# Altium schematic symbol library 5A_BRULA,Tomas.SchLib: 48 symbols
Pins are listed as number, name and electrical type; pins without a type are passive.

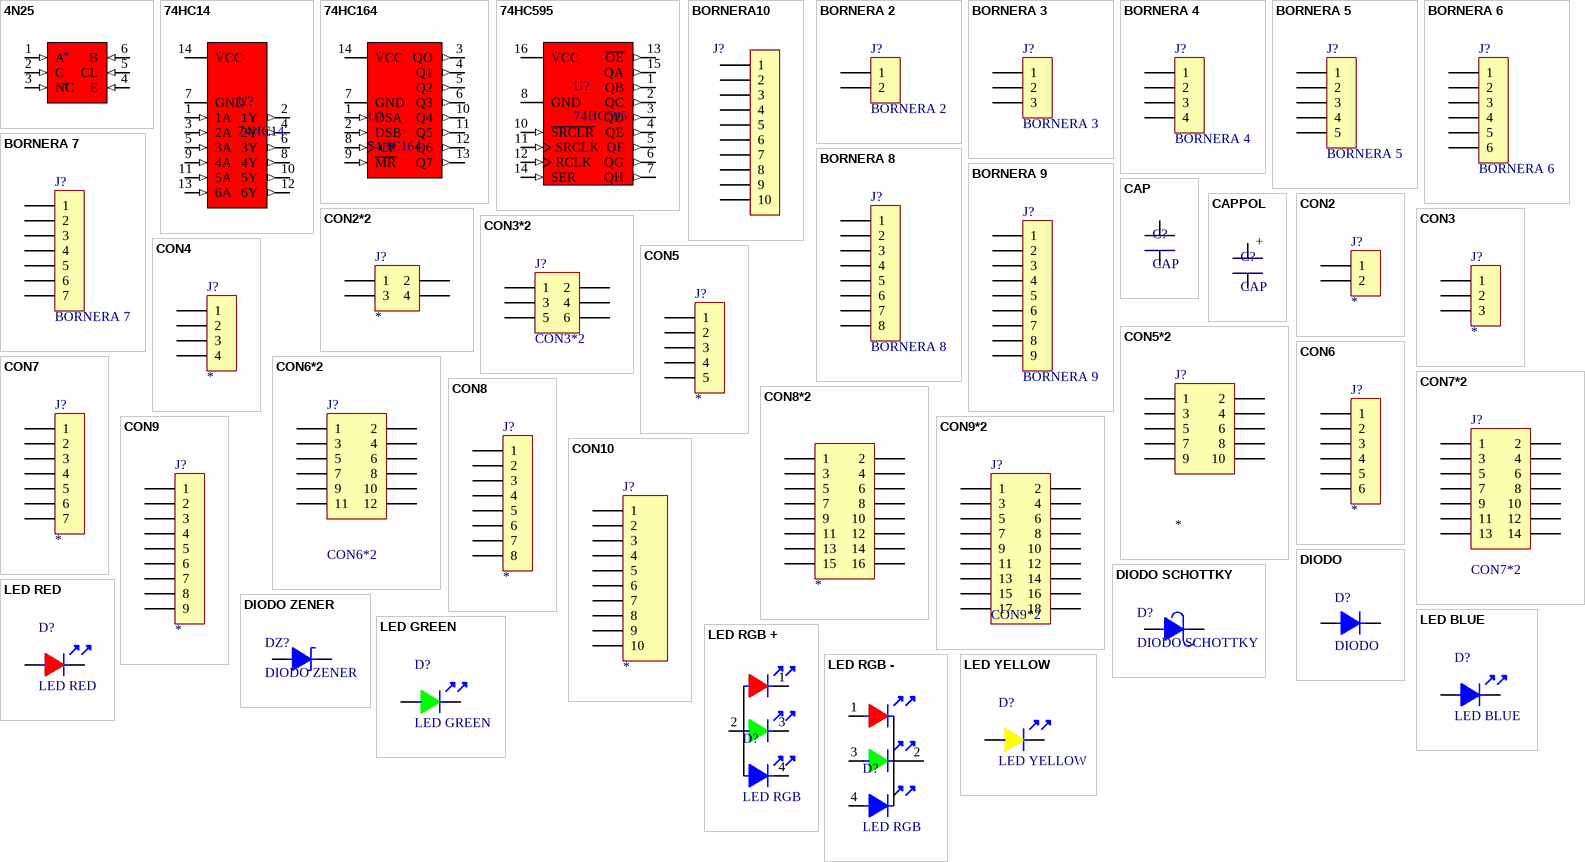
[diagram p0: symbols 4N25 to LED YELLOW]

## 4N25
designator *
footprint DIP6
pins: 1 A (in), 2 C (in), 3 NC (in), 4 E (in), 5 CL (in), 6 B (in)

## 74HC14
designator U?
Autor: Brula, Tomas; Fecha: 19/4/22; Datasheet: diodes.com/assets/Datasheets/74HC14.pdf
footprint SOIC-14 (SOIC-14 SMD)
footprint DIP14
pins: 1 1A (in), 2 1Y (out), 3 2A (in), 4 2Y (out), 5 3A (in), 6 3Y (out), 7 GND (power), 8 4Y (out), 9 4A (in), 10 5Y (out), 11 5A (in), 12 6Y (out), 13 6A (in), 14 VCC (power)

## 74HC164
designator U?
Autor: Brula, Tomas; Fecha: 19/4/22; Datasheet: https://www.diodes.com/assets/Datasheets/74HC164.pdf
footprint SOIC-14 (SOIC-14 SMD)
footprint DIP14
pins: 1 DSA (in), 2 DSB (in), 3 QO (out), 4 Q1 (out), 5 Q2 (out), 6 Q3 (out), 7 GND (power), 8 CP (in), 9 ~{MR} (in), 10 Q4 (out), 11 Q5 (out), 12 Q6 (out), 13 Q7 (out), 14 VCC (power)

## 74HC595
designator U?
Autor: Brula, Tomas; Datasheet: https://www.diodes.com/assets/Datasheets/74HC595.pdf; Fecha: 19/4/22
footprint SOIC-16 (SOIC-16 SMD)
footprint DIP16
pins: 1 QB (out), 2 QC (out), 3 QD (out), 4 QE (out), 5 QF (out), 6 QG (out), 7 QH (out), 8 GND (power), 10 ~{SRCLR} (in), 11 SRCLK (in), 12 RCLK (in), 13 ~{OE} (out), 14 SER (in), 15 QA (out), 16 VCC (power)

## BORNERA10
designator J?  (value not drawn)
footprint BORNERA10
pins: 1, 2, 3, 4, 5, 6, 7, 8, 9, 10

## BORNERA 2
designator J?
footprint BORNERA2 (Bornera con Tornillos 5mm separación)
pins: 1, 2

## BORNERA 3
designator J?
footprint BORNERA3 (Bornera con Tornillos 5mm separación)
pins: 1, 2, 3

## BORNERA 4
designator J?
footprint BORNERA4 (Bornera con Tornillos 5mm separación)
pins: 1, 2, 3, 4

## BORNERA 5
designator J?
footprint BORNERA5 (Bornera con Tornillos 5mm separación)
pins: 1, 2, 3, 4, 5

## BORNERA 6
designator J?
footprint BORNERA6 (Bornera con Tornillos 5mm separación)
pins: 1, 2, 3, 4, 5, 6

## BORNERA 7
designator J?
footprint BORNERA7 (Bornera con Tornillos 5mm separación)
pins: 1, 2, 3, 4, 5, 6, 7

## BORNERA 8
designator J?
footprint BORNERA8 (Bornera con Tornillos 5mm separación)
pins: 1, 2, 3, 4, 5, 6, 7, 8

## BORNERA 9
designator J?
footprint BORNERA9 (Bornera con Tornillos 5mm separación)
pins: 1, 2, 3, 4, 5, 6, 7, 8, 9

## CAP
designator C?
Autor: Brula, Tomas; Fecha: 19/4/22
footprint 0603 (Pasivo 0603)
footprint 0805 (Pasivo 0805)
footprint 1206 (Pasivo 1206)
footprint CAP100
footprint CAP200
pins: 1, 2

## CAPPOL
designator C?, comment CAP
Autor: Brula, Tomas; Fecha: 19/4/22
footprint CAP100RP (Body diameter 5mm)
footprint CAP100RP2 (Body diameter 6.5mm)
footprint CAP200RP2 (Body Diameter 12.5mm)
footprint CAP200RP (Body Diameter 10.33mm)
footprint CAP300RP
pins: 1, 2
text: +

## CON2
designator J?
footprint SIP2 90
footprint SIP2*2
pins: 1, 2

## CON2*2
designator J?
footprint SIP2*2
pins: 1, 2, 3, 4

## CON3
designator J?
footprint SIP3
footprint SIP3 90
pins: 1, 2, 3

## CON3*2
designator J?
footprint SIP3*2 (Footprint not found)
pins: 1, 2, 3, 4, 5, 6

## CON4
designator J?
footprint SIP4
footprint SIP4 90
pins: 1, 2, 3, 4

## CON5
designator J?
footprint SIP5
footprint SIP5 90
pins: 1, 2, 3, 4, 5

## CON5*2
designator J?
footprint SIP5*2
pins: 1, 2, 3, 4, 5, 6, 7, 8, 9, 10

## CON6
designator J?
footprint SIP6
footprint SIP6 90
pins: 1, 2, 3, 4, 5, 6

## CON6*2
designator J?
footprint SIP6*2
pins: 1, 2, 3, 4, 5, 6, 7, 8, 9, 10, 11, 12

## CON7
designator J?
footprint SIP7
footprint SIP7 90
pins: 1, 2, 3, 4, 5, 6, 7

## CON7*2
designator J?
footprint SIP7*2
pins: 1, 2, 3, 4, 5, 6, 7, 8, 9, 10, 11, 12, 13, 14

## CON8
designator J?
footprint SIP8
footprint SIP8 90
pins: 1, 2, 3, 4, 5, 6, 7, 8

## CON8*2
designator ?
footprint SIP8*2
pins: 1, 2, 3, 4, 5, 6, 7, 8, 9, 10, 11, 12, 13, 14, 15, 16

## CON9
designator J?
footprint SIP9
footprint SIP9 90
pins: 1, 2, 3, 4, 5, 6, 7, 8, 9

## CON9*2
designator J?
footprint SIP9*2
pins: 1, 2, 3, 4, 5, 6, 7, 8, 9, 10, 11, 12, 13, 14, 15, 16, 17, 18

## CON10
designator J?
footprint SIP10
footprint SIP10 90
pins: 1, 2, 3, 4, 5, 6, 7, 8, 9, 10

## DIODO
designator D?
footprint SMAK
footprint DO41
footprint SMBK
footprint SMCK
footprint DIODO MINIMELF (DIODO SMD)
footprint 1206K (1206 con Katodo)
footprint SOD-123 (DIODO SMD)
footprint SOD-323 (DIODO SMD)
footprint SMA (DIODO SMD)
pins: 1, 2

## DIODO SCHOTTKY
designator D?
footprint SMAK
footprint SMCK
footprint DO41
footprint SMBK
pins: 1, 2

## DIODO ZENER
designator DZ?
footprint SOT23
footprint DO41
pins: 1, 2

## LED BLUE
designator D?
footprint LED3
footprint LED5
footprint LED0805 (LED SMD 0805)
footprint LED1206
pins: 1, 2

## LED GREEN
designator D?
Autor: Brula, Tomas; Fecha: 19/4/22
footprint LED3
footprint LED5
footprint LED0805 (LED SMD 0805)
footprint LED1206
pins: 1, 2

## LED RED
designator D?
Autor: Brula, Tomas; Fecha: 19/4/22
footprint LED3
footprint LED5
footprint LED0805 (LED SMD 0805)
footprint LED1206
pins: 1, 2

## LED RGB +
designator D?, comment LED RGB
Autor: Brula, Tomas; Fecha: 19/4/22
footprint LED RGB (LED RGB THT)
pins: 1, 2, 3, 4

## LED RGB -
designator D?, comment LED RGB
Autor: Brula, Tomas; Fecha: 19/4/22
footprint LED RGB (LED RGB THT)
pins: 1, 2, 3, 4

## LED YELLOW
designator D?
Autor: Brula, Tomas; Fecha: 19/4/22
footprint LED3
footprint LED5
footprint LED0805 (LED SMD 0805)
footprint LED1206
pins: 1, 2

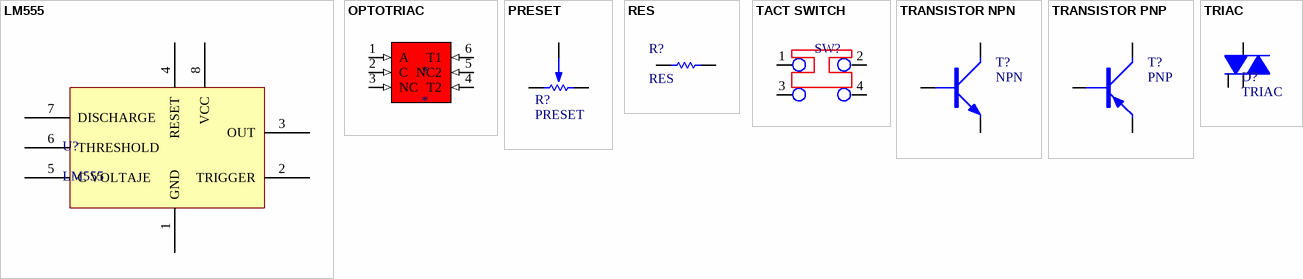
[diagram p1: symbols LM555 to TRIAC]

## LM555
designator U?
Timer
footprint SO8 (Footprint not found)
footprint DIP8
footprint DIP8
pins: 1 GND, 2 TRIGGER, 3 OUT, 4 RESET, 5 C VOLTAJE, 6 THRESHOLD, 7 DISCHARGE, 8 VCC

## OPTOTRIAC
designator *
footprint DIP6
pins: 1 A (in), 2 C (in), 3 NC (in), 4 T2 (in), 5 NC2 (in), 6 T1 (in)

## PRESET
designator R?
footprint PRESET EN LINEA
footprint PRESET EN TRIANGULO
pins: 1, 2, 3

## RES
designator R?
footprint RES400
footprint RES100
footprint RES300
footprint RES500
footprint RES600
footprint RES1200
footprint 0805 (Pasivo 0805)
footprint 1206 (Pasivo 1206)
footprint R Axial 0.8 (Resistor Axial 800 mils)
pins: 1, 2

## TACT SWITCH
designator SW?  (value not drawn)
Autor: Brula, Tomas; Fecha: 19/4/22
footprint TACTSWITCH
pins: 1 0, 2 1, 3 2, 4 3

## TRANSISTOR NPN
designator T?, comment NPN
Autor: Brula, Tomas; Fecha: 19/4/22
footprint SOT23
footprint TO92
footprint TO-126 V
footprint TO-220 H
footprint TO-220 H - DISIPADOR
footprint TO-220 V
pins: 1 B, 2 C, 3 E

## TRANSISTOR PNP
designator T?, comment PNP
Autor: Brula, Tomas; Fecha: 19/4/22
footprint SOT23
footprint TO92
footprint TO-220 H
footprint TO-220 V
footprint TO-220 H - DISIPADOR
footprint TO-126 V
pins: 1 B, 2 C, 3 E

## TRIAC
designator D?
footprint TO-220 V
pins: 1, 2, 3